# Altium footprint library CA_CANTHD50P20_H110.PcbLib: 1 footprints
Each footprint in its own frame and in the unit in brackets; x right, y up, seen from the top. Pads: shape width x height; smd on the part's side, far side on the other; paste and mask are expansions set on the pad; w line width, h text height; cw(c..) or ccw(c..) is an arc to the next point about the centre after c.
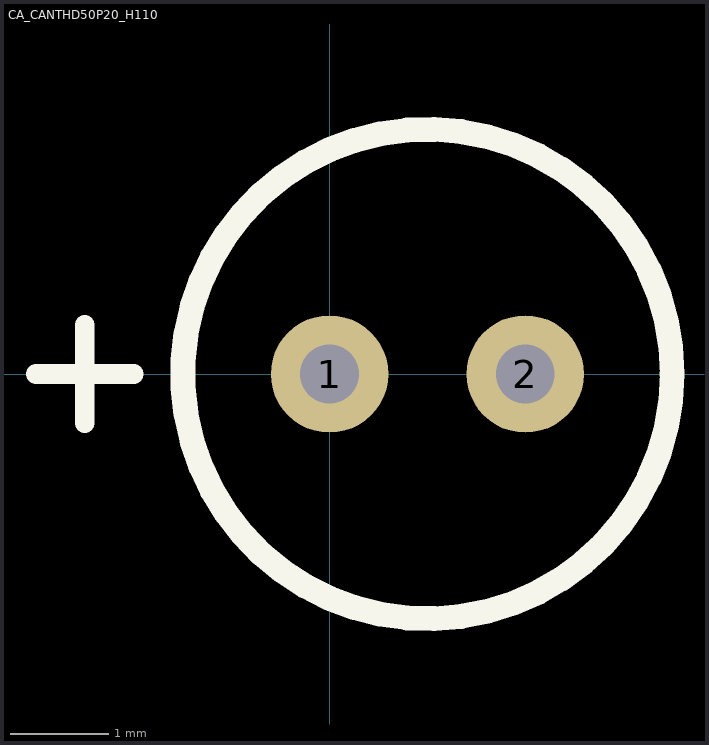
[diagram p0: the footprint, top view; thin cyan lines are the x and y axes]

## CA_CANTHD50P20_H110 [mm]
pads (2):
  round 1.2 hole 0.6: 1(0,0) 2(2,0)
Top Overlay:
  circle w0.254: c1,0 r2.5
  lines w0.203: -3,0 -2,0 ; -2.5,-0.5 -2.5,0.5
3D body: height 11, standoff -2.5, extent -1.5,-2.5 3.5,2.5